# Altium footprint library quantum-research-group.PCBLIB: 5 footprints
Each footprint in its own frame and in the unit in brackets; x right, y up, seen from the top. Pads: shape width x height; smd on the part's side, far side on the other; paste and mask are expansions set on the pad; w line width, h text height; cw(c..) or ccw(c..) is an arc to the next point about the centre after c.
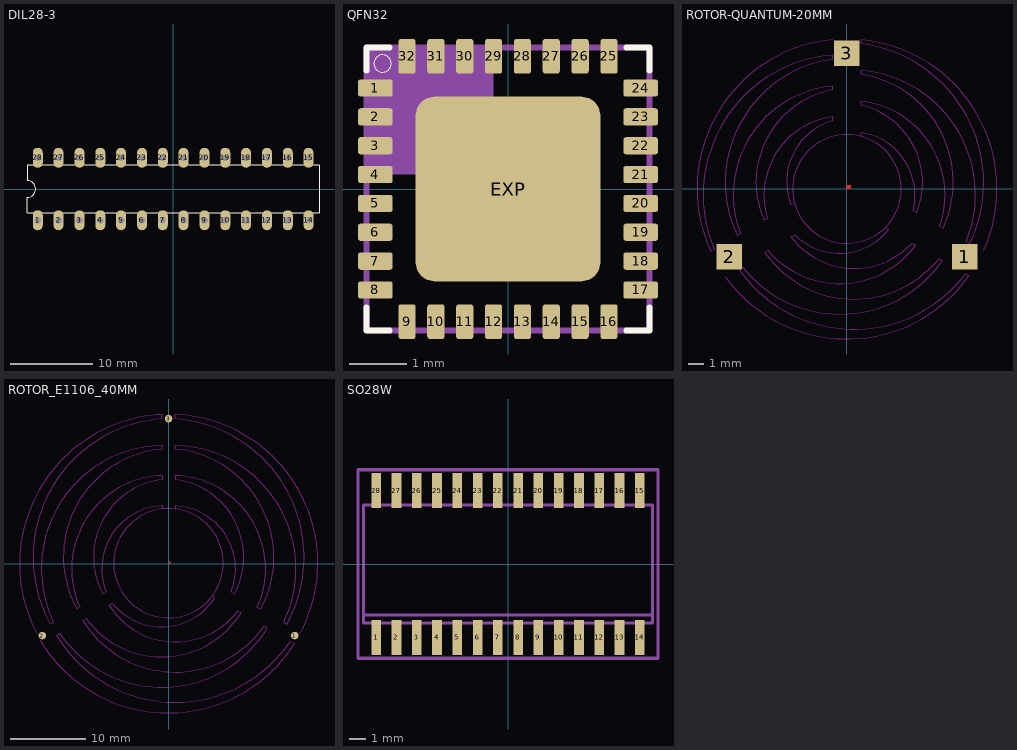
[diagram p0: the footprints below, top view; thin cyan lines are the x and y axes]

## DIL28-3 [mil]
pads (28):
  oval 48x96 hole 32: 1(-650,-150) 2(-550,-150) 3(-450,-150) 4(-350,-150) 5(-250,-150) 6(-150,-150) 7(-50,-150) 8(50,-150) 9(150,-150) 10(250,-150) 11(350,-150) 12(450,-150) 13(550,-150) 14(650,-150) 15(650,150) 16(550,150) 17(450,150) 18(350,150) 19(250,150) 20(150,150) 21(50,150) 22(-50,150) 23(-150,150) 24(-250,150) 25(-350,150) 26(-450,150) 27(-550,150) 28(-650,150)
Top Overlay:
  lines w6: -700,-115 700,-115 700,115 -700,115 -700,40 cw(c-700,0) -700,-40 -700,-115

## QFN32 [mil]
pads (33):
  rrect30% 23.62x11.81 smd: 1(-90.55,68.9) 2(-90.55,49.21) 3(-90.55,29.53) 4(-90.55,9.84) 5(-90.55,-9.84) 6(-90.55,-29.53) 7(-90.55,-49.21) 8(-90.55,-68.9) 17(90.55,-68.9) 18(90.55,-49.21) 19(90.55,-29.53) 20(90.55,-9.84) 21(90.55,9.84) 22(90.55,29.53) 23(90.55,49.21) 24(90.55,68.9)
  rrect30% 11.81x23.62 smd: 9(-68.9,-90.55) 10(-49.21,-90.55) 11(-29.53,-90.55) 12(-9.84,-90.55) 13(9.84,-90.55) 14(29.53,-90.55) 15(49.21,-90.55) 16(68.9,-90.55) 25(68.9,90.55) 26(49.21,90.55) 27(29.53,90.55) 28(9.84,90.55) 29(-9.84,90.55) 30(-29.53,90.55) 31(-49.21,90.55) 32(-68.9,90.55)
  rrect20% 125.98x125.98 smd: EXP(0,0)
Top Overlay:
  circle w0: c-85.63,85.63 r5.91
  lines w4: -96.46,-80.71 -96.46,-96.46 -80.71,-96.46 ; -96.46,80.71 -96.46,96.46 -80.71,96.46 ; 80.71,-96.46 96.46,-96.46 96.46,-80.71 ; 80.71,96.46 96.46,96.46 96.46,80.71
Top Paste:
  rectangle: -11.81,43.31 11.81,55.12
  rectangle: -11.81,23.62 11.81,35.43
  rectangle: -11.81,3.94 11.81,15.75
  rectangle: -11.81,-15.75 11.81,-3.94
  rectangle: -11.81,-35.43 11.81,-23.62
  rectangle: -11.81,-55.12 11.81,-43.31
  rectangle: -51.18,43.31 -27.56,55.12
  rectangle: -51.18,23.62 -27.56,35.43
  rectangle: -51.18,3.94 -27.56,15.75
  rectangle: -51.18,-15.75 -27.56,-3.94
  rectangle: -51.18,-35.43 -27.56,-23.62
  rectangle: -51.18,-55.12 -27.56,-43.31
  rectangle: 27.56,43.31 51.18,55.12
  rectangle: 27.56,23.62 51.18,35.43
  rectangle: 27.56,3.94 51.18,15.75
  rectangle: 27.56,-15.75 51.18,-3.94
  rectangle: 27.56,-35.43 51.18,-23.62
  rectangle: 27.56,-55.12 51.18,-43.31
  region: 0,0 10,0 10,10 0,10
  region: 0,0 10,0 10,10 0,10
  region: 0,0 10,0 10,10 0,10
  region: 0,0 10,0 10,10 0,10
  region: 0,0 10,0 10,10 0,10
  region: 0,0 10,0 10,10 0,10
  region: 0,0 10,0 10,10 0,10
  region: 0,0 10,0 10,10 0,10
  region: 0,0 10,0 10,10 0,10
  region: 0,0 10,0 10,10 0,10
  region: 0,0 10,0 10,10 0,10
  region: 0,0 10,0 10,10 0,10
  region: 0,0 10,0 10,10 0,10
  region: 0,0 10,0 10,10 0,10
  region: 0,0 10,0 10,10 0,10
  region: 0,0 10,0 10,10 0,10
  region: 0,0 10,0 10,10 0,10
  region: 0,0 10,0 10,10 0,10
  region: 0,0 10,0 10,10 0,10
  region: 0,0 10,0 10,10 0,10
  region: 0,0 10,0 10,10 0,10
  region: 0,0 10,0 10,10 0,10
  region: 0,0 10,0 10,10 0,10
  region: 0,0 10,0 10,10 0,10
  region: 0,0 10,0 10,10 0,10
  region: 0,0 10,0 10,10 0,10
  region: 0,0 10,0 10,10 0,10
  region: 0,0 10,0 10,10 0,10
  region: 0,0 10,0 10,10 0,10
  region: 0,0 10,0 10,10 0,10
  region: 0,0 10,0 10,10 0,10
  region: 0,0 10,0 10,10 0,10
Top Solder:
  region: 0,0 10,0 10,10 0,10
  region: 0,0 10,0 10,10 0,10
  region: 0,0 10,0 10,10 0,10
  region: 0,0 10,0 10,10 0,10
  region: 0,0 10,0 10,10 0,10
  region: 0,0 10,0 10,10 0,10
  region: 0,0 10,0 10,10 0,10
  region: 0,0 10,0 10,10 0,10
  region: 0,0 10,0 10,10 0,10
  region: 0,0 10,0 10,10 0,10
  region: 0,0 10,0 10,10 0,10
  region: 0,0 10,0 10,10 0,10
  region: 0,0 10,0 10,10 0,10
  region: 0,0 10,0 10,10 0,10
  region: 0,0 10,0 10,10 0,10
  region: 0,0 10,0 10,10 0,10
  region: 0,0 10,0 10,10 0,10
  region: 0,0 10,0 10,10 0,10
  region: 0,0 10,0 10,10 0,10
  region: 0,0 10,0 10,10 0,10
  region: 0,0 10,0 10,10 0,10
  region: 0,0 10,0 10,10 0,10
  region: 0,0 10,0 10,10 0,10
  region: 0,0 10,0 10,10 0,10
  region: 0,0 10,0 10,10 0,10
  region: 0,0 10,0 10,10 0,10
  region: 0,0 10,0 10,10 0,10
  region: 0,0 10,0 10,10 0,10
  region: 0,0 10,0 10,10 0,10
  region: 0,0 10,0 10,10 0,10
  region: 0,0 10,0 10,10 0,10
  region: 0,0 10,0 10,10 0,10
  region: 0,0 10,0 10,10 0,10
Mechanical 16:
  rectangle: -98.43,9.84 -9.84,98.43
  lines w4: -96.46,-96.46 96.46,-96.46 96.46,96.46 -96.46,96.46 -96.46,-96.46

## ROTOR-QUANTUM-20MM [mil]
pads (3):
  rect 66.93x66.93 smd: 1(309.11,-178.46) 2(-309.11,-178.46) 3(0,356.93)
Top Layer:
  region: 0,0 10,0 10,10 0,10
  region: 0,0 10,0 10,10 0,10
  region: 0,0 10,0 10,10 0,10
Top Layer keep-out:
  circle w0.08: c0,0 r142.94
  lines w0: -319.67,-230.44 ccw(c-0.41,-1.17) 320.35,-228.33 311.69,-223.14 cw(c18.38,-0.27) -285.81,-208.04 -276.46,-202.65 ccw(c-18.19,-2.17) 250.72,-188.13 242.06,-182.94 cw(c19.24,-3.06) -215.32,-167.34 -206.83,-162.44 ccw(c-19.17,-1.7) 180.61,-147.09 171.09,-142.39 cw(c19.12,-1.32) -145.69,-127.14 -136.35,-121.75 ccw(c-20.24,-2.84) 109.63,-106.54 104.15,-102.92 ; -141.2,-38.74 -147.09,-41.68 cw(c7.68,18.93) -37.26,178.96 -37.26,189.74 ccw(c-10.72,-15.9) -208.87,-76.98 -217.69,-82.86 cw(c8.16,17.44) -37.26,260.35 -37.26,270.15 ccw(c-12.28,-15.12) -279.47,-118.16 -288.3,-123.07 cw(c7.25,16.81) -37.26,340.75 -37.26,351.54 ccw(c-9.4,-15.8) -349.09,-158.37 -357.92,-163.27 cw(c-1.05,1.03) -37.26,392.24 ; 37.06,141.65 37.45,148.22 cw(c12.56,-16.11) 173.61,-57.2 182.95,-62.6 ccw(c-8.4,17.24) 37.77,219.37 37.08,229.96 cw(c11.02,-15.78) 244.1,-97.9 252.59,-102.8 ccw(c-6.95,18.2) 37.4,301.11 37.57,311.2 cw(c10.94,-14.69) 313.73,-138.1 323.07,-143.5 ccw(c-8.97,16.04) 37.39,381.5 37.56,391.6 cw(c1.11,0.09) 359.88,-160.82

## ROTOR_E1106_40MM [mm]
pads (3):
  rrect100% 1x1 smd: 1(16.7,-9.5) 2(-16.7,-9.5) 3(0,19.2)
Top Layer:
  region: 0,0 0.254,0 0.254,0.254 0,0.254
  region: 0,0 0.254,0 0.254,0.254 0,0.254
  region: 0,0 0.254,0 0.254,0.254 0,0.254
Top Layer keep-out:
  lines w0: -17.45,-9.225 cw(c0.103,-0.039) -0.85,19.75 -0.85,19.175 ccw(c0.432,0.867) -15.65,-7.975 -15.225,-7.725 cw(c-0.512,-0.648) -0.85,15.675 -0.85,15.175 ccw(c0.434,0.88) -12.175,-5.975 -11.75,-5.725 cw(c-0.443,-0.694) -0.85,11.675 -0.85,11.15 ccw(c0.411,0.889) -8.725,-3.95 -8.275,-3.7 cw(c-0.507,-0.678) -0.85,7.65 -0.85,7.275 ; -17,-10.1 ccw(c-0.024,0.024) 16.675,-10.55 16.125,-10.225 cw(c0.894,0.025) -14.8,-9.5 -14.375,-9.225 ccw(c-0.891,-0.019) 13.075,-8.475 12.65,-8.225 cw(c0.901,0.011) -11.325,-7.5 -10.9,-7.225 ccw(c-0.894,0.037) 9.6,-6.5 9.175,-6.225 cw(c0.921,0.011) -7.85,-5.475 -7.425,-5.225 ccw(c-0.918,-0.008) 6.125,-4.475 5.775,-4.25 ; 17.425,-9.25 ccw(c0.019,0.056) 0.875,19.775 0.875,19.75 0.875,19.175 ; -0.85,7.275 cw(c-0.135,-2.88) 0.875,7.25 0.875,7.275 ; -0.85,7.275 ccw(c-0.018,0.087) 5.775,-4.25 ; 0.875,7.275 0.875,7.65 ; 0.875,7.275 cw(c0,0.099) 5.775,-4.25 ; 0.875,7.65 cw(c0.532,-0.678) 8.3,-3.7 ; 0.875,7.65 cw(c0.532,-0.678) 8.3,-3.7 ; 0.875,11.675 0.875,11.15 cw(c-0.386,0.889) 8.75,-3.95 8.3,-3.7 ; 0.875,11.675 cw(c0.468,-0.694) 11.775,-5.725 ; 0.875,11.675 cw(c0.468,-0.694) 11.775,-5.725 ; 0.875,15.675 cw(c0.537,-0.648) 15.25,-7.725 ; 0.875,15.675 0.875,15.175 cw(c-0.388,0.885) 12.225,-5.95 11.775,-5.725 ; 0.875,15.675 cw(c0.537,-0.648) 15.25,-7.725 ; 0.875,19.175 cw(c-0.407,0.867) 15.675,-7.975 ; 0.875,19.175 cw(c-0.407,0.867) 15.675,-7.975 ; 15.25,-7.725 15.675,-7.975

## SO28W [mil]
pads (28):
  rect 23.62x86.61 smd: 1(-325,-181.1) 2(-275,-181.1) 3(-225,-181.1) 4(-175,-181.1) 5(-125,-181.1) 6(-75,-181.1) 7(-25,-181.1) 8(25,-181.1) 9(75,-181.1) 10(125,-181.1) 11(175,-181.1) 12(225,-181.1) 13(275,-181.1) 14(325,-181.1) 15(325,181.1) 16(275,181.1) 17(225,181.1) 18(175,181.1) 19(125,181.1) 20(75,181.1) 21(25,181.1) 22(-25,181.1) 23(-75,181.1) 24(-125,181.1) 25(-175,181.1) 26(-225,181.1) 27(-275,181.1) 28(-325,181.1)
Mechanical 16:
  rectangle: -334.65,-209.45 -315.35,-149.61
  rectangle: -284.65,-209.45 -265.35,-149.61
  rectangle: -234.65,-209.45 -215.35,-149.61
  rectangle: -184.65,-209.45 -165.35,-149.61
  rectangle: -134.65,-209.45 -115.35,-149.61
  rectangle: -84.65,-209.45 -65.35,-149.61
  rectangle: -34.65,-209.45 -15.35,-149.61
  rectangle: 15.35,-209.45 34.65,-149.61
  rectangle: 65.35,-209.45 84.65,-149.61
  rectangle: 115.35,-209.45 134.65,-149.61
  rectangle: 165.35,-209.45 184.65,-149.61
  rectangle: 215.35,-209.45 234.65,-149.61
  rectangle: 265.35,-209.45 284.65,-149.61
  rectangle: 315.35,-209.45 334.65,-149.61
  rectangle: 315.35,149.61 334.65,209.45
  rectangle: 265.35,149.61 284.65,209.45
  rectangle: 215.35,149.61 234.65,209.45
  rectangle: 165.35,149.61 184.65,209.45
  rectangle: 115.35,149.61 134.65,209.45
  rectangle: 65.35,149.61 84.65,209.45
  rectangle: 15.35,149.61 34.65,209.45
  rectangle: -34.65,149.61 -15.35,209.45
  rectangle: -84.65,149.61 -65.35,209.45
  rectangle: -134.65,149.61 -115.35,209.45
  rectangle: -184.65,149.61 -165.35,209.45
  rectangle: -234.65,149.61 -215.35,209.45
  rectangle: -284.65,149.61 -265.35,209.45
  rectangle: -334.65,149.61 -315.35,209.45
  lines w8: -356.3,-125.98 -356.3,-145.67 356.3,-145.67 356.3,-125.98 ; -356.3,-125.98 -356.3,145.67 356.3,145.67 356.3,-125.98 ; -356.3,-125.98 356.3,-125.98
Mechanical 27:
  lines w7.87: -369.88,-232.28 369.88,-232.28 369.88,232.28 -369.88,232.28 -369.88,-232.28